# EAGLE library part INA111BP (library 2021-09-26_09-59-43_Library)
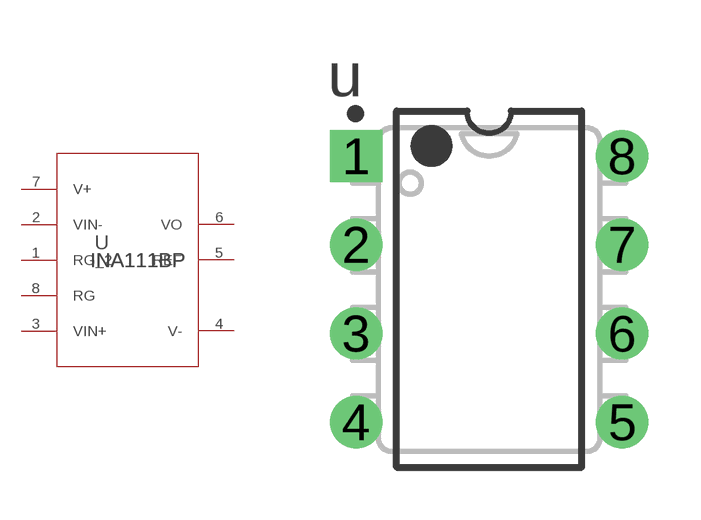
[diagram p0: symbol with the pads of P0008A; footprint P0008A]

Designator prefix U

## INA111BPP0008A (Copyright: Copyright (C) 2021 Ultra Librarian. All rights reserved.; Manufacturer_Part_Number: INA111BP; Mfr_Name: Texas Instruments; RefDes: RefDes; TYPE: TYPE)  [P0008A]
1  RG_2  pas
2  VIN-  in
3  VIN+  in
4  V-  pwr
5  REF  in
6  VO  out
7  V+  pwr
8  RG  pas

## Footprint P0008A (pad centres in mm)
drill 0.9 pad 1.5 square: 1 -3.81,3.81
drill 0.9 pad 1.5 round: 2 -3.81,1.27; 3 -3.81,-1.27; 4 -3.81,-3.81; 5 3.81,-3.81; 6 3.81,-1.27; 7 3.81,1.27; 8 3.81,3.81